# Altium footprint library USBCConnector.PcbLib: 1 footprints
Each footprint in its own frame and in the unit in brackets; x right, y up, seen from the top. Pads: shape width x height; smd on the part's side, far side on the other; paste and mask are expansions set on the pad; w line width, h text height; cw(c..) or ccw(c..) is an arc to the next point about the centre after c.
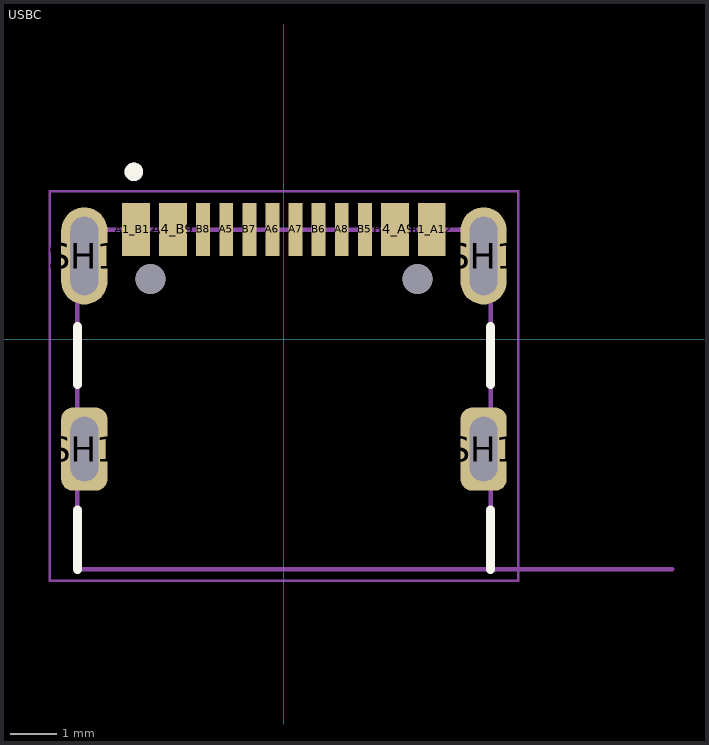
[diagram p0: the footprint, top view; thin cyan lines are the x and y axes]

## USBC [mm]
pads (18):
  rect 0.6x1.15 smd: A1_B12(-3.2,2.378) A4_B9(-2.4,2.378) B1_A12(3.2,2.378) B4_A9(2.4,2.378)
  rect 0.3x1.15 smd: A5(-1.25,2.378) A6(-0.25,2.378) A7(0.25,2.378) A8(1.25,2.378) B5(1.75,2.378) B6(0.75,2.378) B7(-0.75,2.378) B8(-1.75,2.378)
  rrect50% 1x1.8 hole 0.6 slot 1.4 at 90 deg: SH1(-4.32,-2.377) SH1(4.32,-2.377)
  oval 1x2.1 hole 0.6 slot 1.7 at 90 deg: SH1(-4.32,1.803) SH1(4.32,1.803)
  round 0.65 hole 0.65 unplated: ""(-2.89,1.303) ""(2.89,1.303)
Top Overlay:
  circle w0.2: c-3.25,3.623 r0.1
  lines w0.2: -4.47,-4.977 -4.47,-3.697 ; -4.47,-0.977 -4.47,0.273 ; 4.47,-4.977 4.47,-3.697 ; 4.47,-0.977 4.47,0.273
Mechanical 13:
  circle w0.2: c-3.25,3.623 r0.1
  lines w0.1: 8.4,-4.977 4.47,-4.977 ; 4.47,-4.977 4.47,2.373 -4.47,2.373 -4.47,-4.977 4.47,-4.977
  text "PCB EDGE" at 5.4,-4.877 h0.41
Mechanical 15:
  lines w0.05: -5.07,-5.227 -5.07,3.203 5.07,3.203 5.07,-5.227 -5.07,-5.227
3D body "step_temp.STEP": height 3.31, standoff -1.1, extent -4.47,-4.977 4.47,2.733